# EAGLE library part L6902D (library Eagle-JeeLabs)
L6902D switching regulator
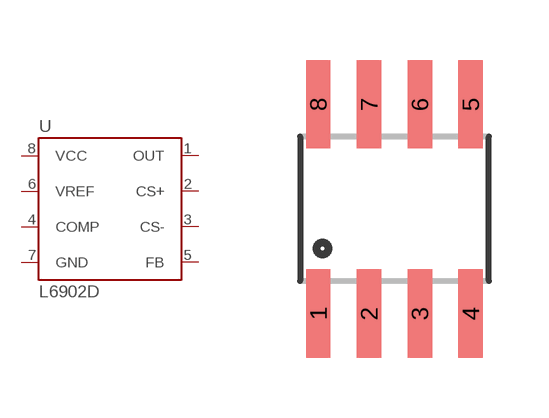
[diagram p10: symbol with the pads of SO08; footprint SO08]

Designator prefix -

## L6902D  [SO08]
1  OUT  pwr
2  CS+  in
3  CS-  in
4  COMP
5  FB  in
6  VREF  out
7  GND  pwr
8  VCC  pwr

## Footprint SO08 (pad centres in mm)
Small Outline Package Fits JEDEC packages (narrow SOIC-8)
smd 0.61 x 2.21: 1 -1.905,-2.616; 2 -0.635,-2.616; 3 0.635,-2.616; 4 1.905,-2.616; 5 1.905,2.616; 6 0.635,2.616; 7 -0.635,2.616; 8 -1.905,2.616